# EAGLE library part ECE477_PARTS_LIBRARY_SIM5320 (library ECE477_parts_library)
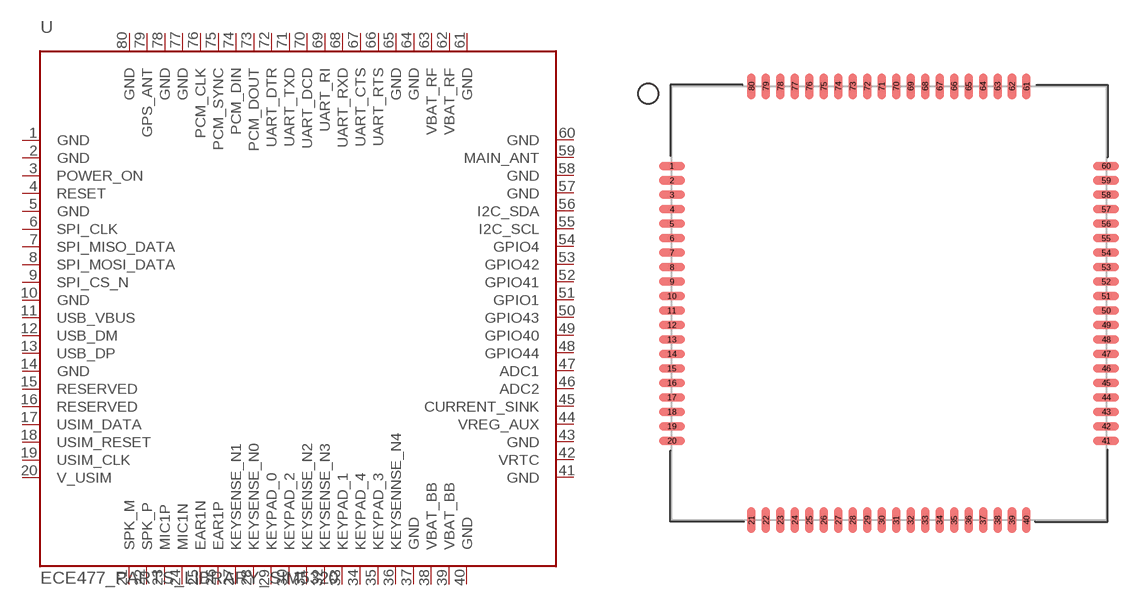
[diagram p3: symbol with the pads of ECE477_PARTS_LIBRARY_MICROBUILDER_SIM5320; footprint ECE477_PARTS_LIBRARY_MICROBUILDER_SIM5320]

Designator prefix U

## ECE477_PARTS_LIBRARY_SIM5320  [ECE477_PARTS_LIBRARY_MICROBUILDER_SIM5320]
1  GND
2  GND
3  POWER_ON
4  RESET
5  GND
6  SPI_CLK
7  SPI_MISO_DATA
8  SPI_MOSI_DATA
9  SPI_CS_N
10  GND
11  USB_VBUS
12  USB_DM
13  USB_DP
14  GND
15  RESERVED
16  RESERVED
17  USIM_DATA
18  USIM_RESET
19  USIM_CLK
20  V_USIM
21  SPK_M
22  SPK_P
23  MIC1P
24  MIC1N
25  EAR1N
26  EAR1P
27  KEYSENSE_N1
28  KEYSENSE_N0
29  KEYPAD_0
30  KEYPAD_2
31  KEYSENSE_N2
32  KEYSENSE_N3
33  KEYPAD_1
34  KEYPAD_4
35  KEYPAD_3
36  KEYSENNSE_N4
37  GND
38  VBAT_BB
39  VBAT_BB
40  GND
41  GND
42  VRTC
43  GND
44  VREG_AUX
45  CURRENT_SINK
46  ADC2
47  ADC1
48  GPIO44
49  GPIO40
50  GPIO43
51  GPIO1
52  GPIO41
53  GPIO42
54  GPIO4
55  I2C_SCL
56  I2C_SDA
57  GND
58  GND
59  MAIN_ANT
60  GND
61  GND
62  VBAT_RF
63  VBAT_RF
64  GND
65  GND
66  UART_RTS
67  UART_CTS
68  UART_RXD
69  UART_RI
70  UART_DCD
71  UART_TXD
72  UART_DTR
73  PCM_DOUT
74  PCM_DIN
75  PCM_SYNC
76  PCM_CLK
77  GND
78  GND
79  GPS_ANT
80  GND

## Footprint ECE477_PARTS_LIBRARY_MICROBUILDER_SIM5320 (pad centres in mm)
smd 1.8 x 0.6: 1 -15,9.5; 2 -15,8.5; 3 -15,7.5; 4 -15,6.5; 5 -15,5.5; 6 -15,4.5; 7 -15,3.5; 8 -15,2.5; 9 -15,1.5; 10 -15,0.5; 11 -15,-0.5; 12 -15,-1.5; 13 -15,-2.5; 14 -15,-3.5; 15 -15,-4.5; 16 -15,-5.5; 17 -15,-6.5; 18 -15,-7.5; 19 -15,-8.5; 20 -15,-9.5; 41 15,-9.5; 42 15,-8.5; 43 15,-7.5; 44 15,-6.5; 45 15,-5.5; 46 15,-4.5; 47 15,-3.5; 48 15,-2.5; 49 15,-1.5; 50 15,-0.5; 51 15,0.5; 52 15,1.5; 53 15,2.5; 54 15,3.5; 55 15,4.5; 56 15,5.5; 57 15,6.5; 58 15,7.5; 59 15,8.5; 60 15,9.5
smd 0.6 x 1.8: 21 -9.5,-15; 22 -8.5,-15; 23 -7.5,-15; 24 -6.5,-15; 25 -5.5,-15; 26 -4.5,-15; 27 -3.5,-15; 28 -2.5,-15; 29 -1.5,-15; 30 -0.5,-15; 31 0.5,-15; 32 1.5,-15; 33 2.5,-15; 34 3.5,-15; 35 4.5,-15; 36 5.5,-15; 37 6.5,-15; 38 7.5,-15; 39 8.5,-15; 40 9.5,-15; 61 9.5,15; 62 8.5,15; 63 7.5,15; 64 6.5,15; 65 5.5,15; 66 4.5,15; 67 3.5,15; 68 2.5,15; 69 1.5,15; 70 0.5,15; 71 -0.5,15; 72 -1.5,15; 73 -2.5,15; 74 -3.5,15; 75 -4.5,15; 76 -5.5,15; 77 -6.5,15; 78 -7.5,15; 79 -8.5,15; 80 -9.5,15